# EAGLE library part X__JST_PH_LIEGEND_5 (library ..SMD)
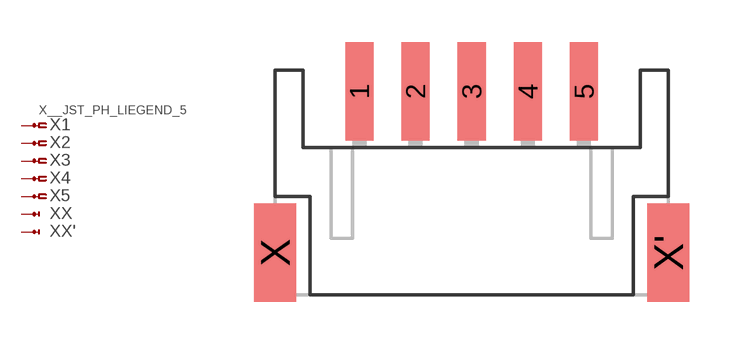
[diagram p374: symbol with the pads of JST_PH_LIEGEND_5; footprint JST_PH_LIEGEND_5]

Designator prefix X; gates 1=PHPIN-NV 2=PHPIN-N 3=PHPIN-N 4=PHPIN-N 5=PHPIN-N X=PHPIN-X X'=PHPIN-X

## X__JST_PH_LIEGEND_5  [JST_PH_LIEGEND_5]
1  1:1  pas
2  2:1  pas
3  3:1  pas
4  4:1  pas
5  5:1  pas
X  X:1  pas
X'  X':1  pas

## Footprint JST_PH_LIEGEND_5 (pad centres in mm)
smd 1 x 3.5: 1 0,0; 2 2,0; 3 4,0; 4 6,0; 5 8,0
smd 1.5 x 3.5: X -3,-5.75; X' 11,-5.75